# EAGLE library part KEYPAD_8 (library dedenbear)
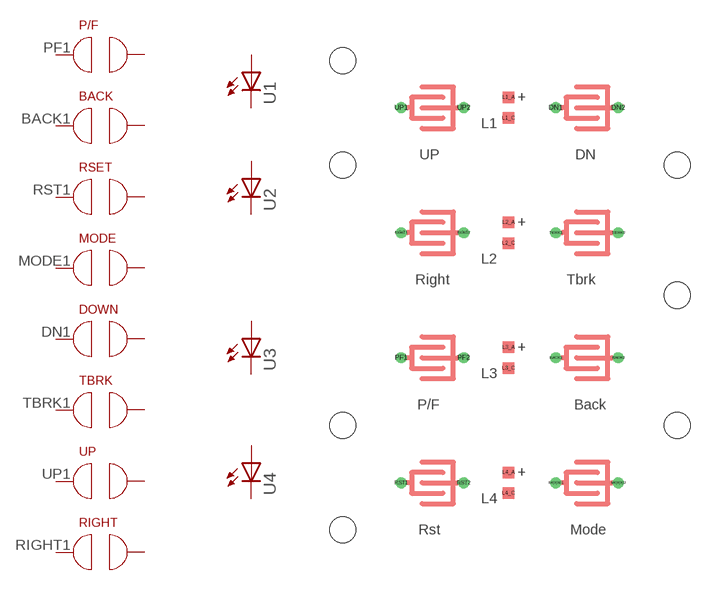
[diagram p5: symbol with the pads of KEYPAD_8; footprint KEYPAD_8]

Designator prefix -; gates P/F=SWITCH_PAD BACK=SWITCH_PAD RSET=SWITCH_PAD MODE=SWITCH_PAD DOWN=SWITCH_PAD TBRK=SWITCH_PAD UP=SWITCH_PAD RIGHT=SWITCH_PAD 1=LED 2=LED 3=LED 4=LED

## KEYPAD_8  [KEYPAD_8]
BACK1  BACK:P$1  pas
BACK2  BACK:P$2  pas
DN1  DOWN:P$1  pas
DN2  DOWN:P$2  pas
L1_A  1:A  pas
L1_C  1:C  pas
L2_A  2:A  pas
L2_C  2:C  pas
L3_A  3:A  pas
L3_C  3:C  pas
L4_A  4:A  pas
L4_C  4:C  pas
MODE1  MODE:P$1  pas
MODE2  MODE:P$2  pas
PF1  P/F:P$1  pas
PF2  P/F:P$2  pas
RIGHT1  RIGHT:P$1  pas
RIGHT2  RIGHT:P$2  pas
RST1  RSET:P$1  pas
RST2  RSET:P$2  pas
TBRK1  TBRK:P$1  pas
TBRK2  TBRK:P$2  pas
UP1  UP:P$1  pas
UP2  UP:P$2  pas

## Footprint KEYPAD_8 (pad centres in mm)
drill 0.813 round: BACK1 29.413,24.13; BACK2 37.033,24.13; DN1 29.413,54.61; DN2 37.033,54.61; MODE1 29.413,8.89; MODE2 37.033,8.89; PF1 10.592,24.13; PF2 18.212,24.13; RIGHT1 10.592,39.37; RIGHT2 18.212,39.37; RST1 10.592,8.89; RST2 18.212,8.89; TBRK1 29.413,39.37; TBRK2 37.033,39.37; UP1 10.592,54.61; UP2 18.212,54.61
smd 1.397 x 1.397: L1_A 23.647,55.88; L1_C 23.647,53.34; L2_A 23.647,40.64; L2_C 23.647,38.1; L3_A 23.647,25.4; L3_C 23.647,22.86; L4_A 23.647,10.16; L4_C 23.647,7.62
hole 3.175 at 3.48,60.325
hole 3.175 at 44.196,15.875
hole 3.175 at 44.196,31.75
hole 3.175 at 44.196,47.625
hole 3.175 at 3.48,15.875
hole 3.175 at 3.48,47.625
hole 3.175 at 3.48,3.175